# EAGLE library part ESP32-WROOM-32E (library esp32)
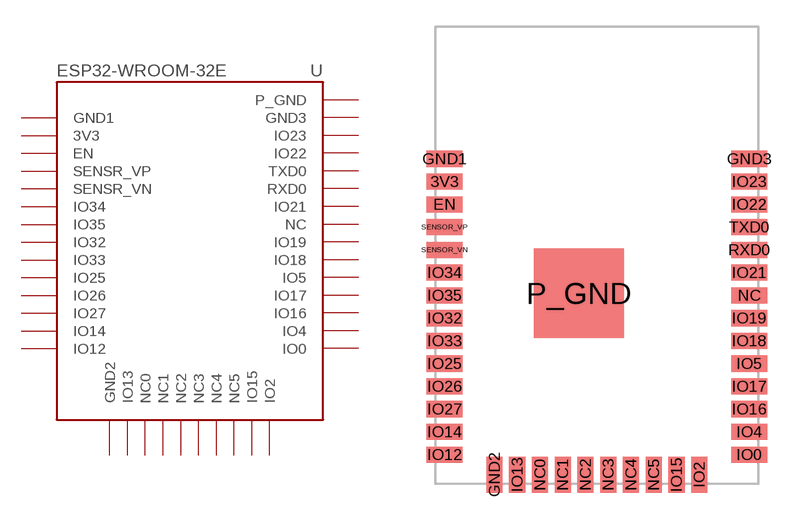
[diagram p1: symbol with the pads of ESP32-WROOM-32E; footprint ESP32-WROOM-32E]

Designator prefix -

## ESP32-WROOM-32E  [ESP32-WROOM-32E]
3V3  3V3  pwr
EN  EN
GND1  GND1  pwr
GND2  GND2  pwr
GND3  GND3  pwr
IO0  IO0
IO2  IO2
IO4  IO4
IO5  IO5
IO12  IO12
IO13  IO13
IO14  IO14
IO15  IO15
IO16  IO16
IO17  IO17
IO18  IO18
IO19  IO19
IO21  IO21
IO22  IO22
IO23  IO23
IO25  IO25
IO26  IO26
IO27  IO27
IO32  IO32
IO33  IO33
IO34  IO34
IO35  IO35
NC  NC  nc
NC0  NC0  nc
NC1  NC1  nc
NC2  NC2  nc
NC3  NC3  nc
NC4  NC4  nc
NC5  NC5  nc
P_GND  P_GND  pwr
RXD0  RXD0
SENSOR_VN  SENSR_VN
SENSOR_VP  SENSR_VP
TXD0  TXD0

## Footprint ESP32-WROOM-32E (pad centres in mm)
smd 2 x 0.9: 3V3 -8.5,6.35; EN -8.5,5.08; GND1 -8.5,7.62; GND3 8.5,7.62; IO0 8.5,-8.89; IO4 8.5,-7.62; IO5 8.5,-3.81; IO12 -8.5,-8.89; IO14 -8.5,-7.62; IO16 8.5,-6.35; IO17 8.5,-5.08; IO18 8.5,-2.54; IO19 8.5,-1.27; IO21 8.5,1.27; IO22 8.5,5.08; IO23 8.5,6.35; IO25 -8.5,-3.81; IO26 -8.5,-5.08; IO27 -8.5,-6.35; IO32 -8.5,-1.27; IO33 -8.5,-2.54; IO34 -8.5,1.27; IO35 -8.5,0; NC 8.5,0; RXD0 8.5,2.54; SENSOR_VN -8.5,2.54; SENSOR_VP -8.5,3.81; TXD0 8.5,3.81
smd 0.9 x 2: GND2 -5.715,-10.01; IO2 5.715,-10.01; IO13 -4.445,-10.01; IO15 4.445,-10.01; NC0 -3.175,-10.01; NC1 -1.905,-10.01; NC2 -0.635,-10.01; NC3 0.635,-10.01; NC4 1.905,-10.01; NC5 3.175,-10.01
smd 5 x 5: P_GND -1,0.12